# EAGLE library part FFC-LANDING12 (library AKA_test)
just a scratchpad part for k40 lasercutter connector hacking
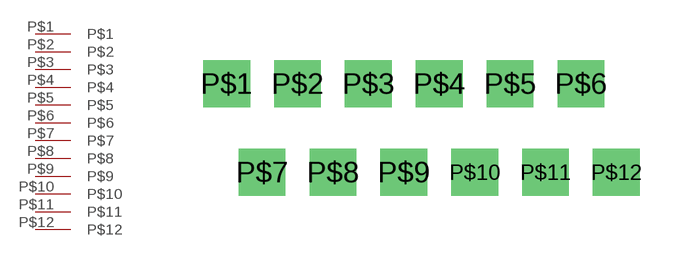
[diagram p9: symbol with the pads of FFC-LANDING12; footprint FFC-LANDING12]

Designator prefix -

## FFC-LANDING12  [FFC-LANDING12]
P$1  P$1
P$2  P$2
P$3  P$3
P$4  P$4
P$5  P$5
P$6  P$6
P$7  P$7
P$8  P$8
P$9  P$9
P$10  P$10
P$11  P$11
P$12  P$12

## Footprint FFC-LANDING12 (pad centres in mm)
drill 0.8 pad 1.676 square: P$1 0,3.175; P$2 2.54,3.175; P$3 5.08,3.175; P$4 7.62,3.175; P$5 10.16,3.175; P$6 12.7,3.175; P$7 1.27,0; P$8 3.81,0; P$9 6.35,0; P$10 8.89,0; P$11 11.43,0; P$12 13.97,0